# EAGLE library part 9325 (library sowter)
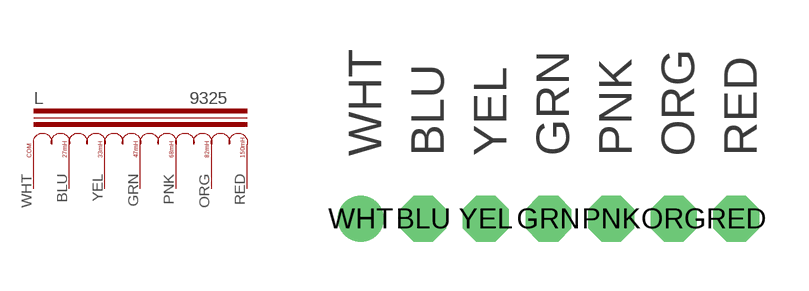
[diagram p0: symbol with the pads of 9325; footprint 9325]

Designator prefix L

## 9325  [9325]
BLU  BLU  pas
GRN  GRN  pas
ORG  ORG  pas
PNK  PNK  pas
RED  RED  pas
WHT  WHT  pas
YEL  YEL  pas

## Footprint 9325 (pad centres in mm)
drill 0.813 pad 1.397 octagon: BLU -3.81,0; GRN 0,0; ORG 3.81,0; PNK 1.905,0; RED 5.715,0; YEL -1.905,0
drill 0.813 pad 1.397: WHT -5.715,0